# Altium footprint library CBPcbLib.PcbLib: 32 footprints (part 2 of 2)
Each footprint in its own frame and in the unit in brackets; x right, y up, seen from the top. Pads: shape width x height; smd on the part's side, far side on the other; paste and mask are expansions set on the pad; w line width, h text height; cw(c..) or ccw(c..) is an arc to the next point about the centre after c.
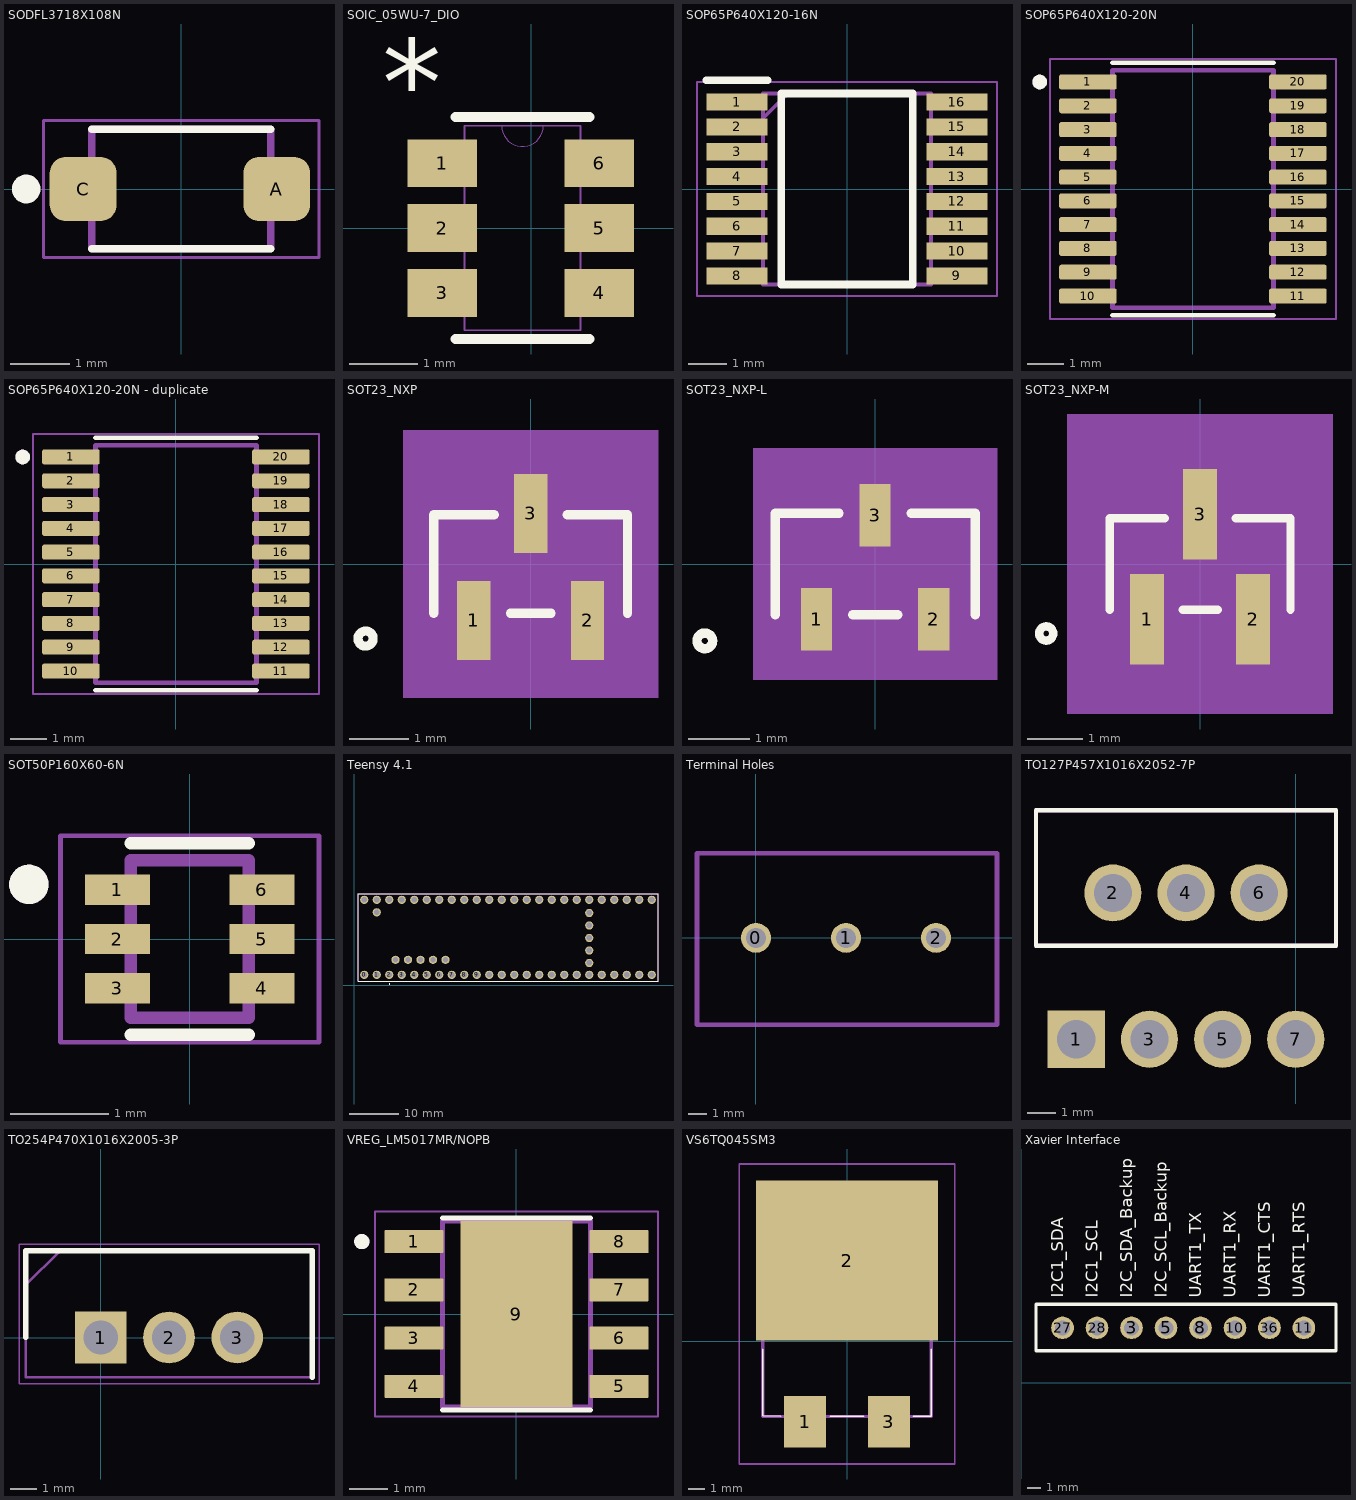
[diagram p1: the footprints below, top view; thin cyan lines are the x and y axes]

## SODFL3718X108N [mm]
pads (2):
  rrect50% 1.12x1.08 smd: A(1.6,0) C(-1.645,0)
Top Overlay:
  circle w0.24: c-2.6,0 r0.12
  lines w0.127: -1.5,-1 1.5,-1 ; -1.5,1 1.5,1
Mechanical 13:
  lines w0.127: -1.5,-1 1.5,-1 1.5,1 -1.5,1 -1.5,-1
Mechanical 15:
  lines w0.05: -2.31,-1.15 2.31,-1.15 2.31,1.15 -2.31,1.15 -2.31,-1.15

## SOIC_05WU-7_DIO [mm]
pads (6):
  rect 1.016x0.7 smd paste+0 mask+0: 1(-1.302,0.95) 2(-1.302,0) 3(-1.302,-0.95) 4(0.997,-0.95) 5(0.997,0) 6(0.997,0.95)
Top Overlay:
  lines w0.152: -1.105,-1.626 0.851,-1.626 ; -1.105,1.626 0.851,1.626
  text "*" at -2.184,1.499 h1.27
Mechanical 13:
  lines w0: -0.432,1.499 ccw(c-0.127,1.499) 0.178,1.499
  lines w0.025: -0.978,-1.179 -0.978,-0.721 ; -0.978,-0.229 -0.978,0.229 ; -0.978,0.721 -0.978,1.179 ; -0.851,-1.179 -1.397,-1.179 -1.397,-0.721 -0.851,-0.721 ; -0.851,-0.229 -1.397,-0.229 -1.397,0.229 -0.851,0.229 ; -0.851,0.721 -1.397,0.721 -1.397,1.179 -0.851,1.179 ; 0.724,-1.179 0.724,-0.721 ; 0.724,-0.229 0.724,0.229 ; 0.724,0.721 0.724,1.179 ; 0.851,-1.179 1.397,-1.179 1.397,-0.721 0.851,-0.721 ; 0.851,-0.229 1.397,-0.229 1.397,0.229 0.851,0.229 ; 0.851,0.721 1.397,0.721 1.397,1.179 0.851,1.179 ; -0.978,-1.499 -0.978,1.499 0.724,1.499 0.724,-1.499 -0.978,-1.499
3D body "SOIC_05WU-7_DIO.step": height 0.99, standoff 0, extent -1.524,-1.524 1.27,1.474

## SOP65P640X120-16N [mm]
pads (16):
  rect 1.6x0.45 smd: 1(-2.875,2.275) 2(-2.875,1.625) 3(-2.875,0.975) 4(-2.875,0.325) 5(-2.875,-0.325) 6(-2.875,-0.975) 7(-2.875,-1.625) 8(-2.875,-2.275) 9(2.875,-2.275) 10(2.875,-1.625) 11(2.875,-0.975) 12(2.875,-0.325) 13(2.875,0.325) 14(2.875,0.975) 15(2.875,1.625) 16(2.875,2.275)
Top Overlay:
  lines w0.2: -3.675,2.85 -2.075,2.85 ; -1.725,-2.5 1.725,-2.5 1.725,2.5 -1.725,2.5 -1.725,-2.5
Mechanical 15:
  lines w0.1: -2.2,1.85 -1.55,2.5 ; -2.2,-2.5 2.2,-2.5 2.2,2.5 -2.2,2.5 -2.2,-2.5
Mechanical 20:
  lines w0.05: -3.925,-2.8 3.925,-2.8 3.925,2.8 -3.925,2.8 -3.925,-2.8
3D body "DRV8847SPWR.stp": height 5.8, standoff -4.65, extent -10,-3.376 10,3.376

## SOP65P640X120-20N [mm]
pads (20):
  rrect25% 1.57x0.41 smd: 1(-2.87,2.925) 2(-2.87,2.275) 3(-2.87,1.625) 4(-2.87,0.975) 5(-2.87,0.325) 6(-2.87,-0.325) 7(-2.87,-0.975) 8(-2.87,-1.625) 9(-2.87,-2.275) 10(-2.87,-2.925) 11(2.87,-2.925) 12(2.87,-2.275) 13(2.87,-1.625) 14(2.87,-0.975) 15(2.87,-0.325) 16(2.87,0.325) 17(2.87,0.975) 18(2.87,1.625) 19(2.87,2.275) 20(2.87,2.925)
Top Overlay:
  circle w0.2: c-4.19,2.925 r0.1
  lines w0.127: -2.2,-3.45 2.2,-3.45 ; -2.2,3.45 2.2,3.45
Mechanical 13:
  circle w0.2: c-4.19,2.925 r0.1
  lines w0.127: -2.2,-3.25 -2.2,3.25 2.2,3.25 2.2,-3.25 -2.2,-3.25
Mechanical 15:
  lines w0.05: -3.91,-3.55 -3.91,3.55 3.91,3.55 3.91,-3.55 -3.91,-3.55
3D body "step_temp.STEP": height 1.2, standoff 0, extent -3.2,-3.25 3.2,3.25

## SOP65P640X120-20N - duplicate [mm]
height 1.2
pads (20):
  rrect25% 1.57x0.41 smd: 1(-2.87,2.925) 2(-2.87,2.275) 3(-2.87,1.625) 4(-2.87,0.975) 5(-2.87,0.325) 6(-2.87,-0.325) 7(-2.87,-0.975) 8(-2.87,-1.625) 9(-2.87,-2.275) 10(-2.87,-2.925) 11(2.87,-2.925) 12(2.87,-2.275) 13(2.87,-1.625) 14(2.87,-0.975) 15(2.87,-0.325) 16(2.87,0.325) 17(2.87,0.975) 18(2.87,1.625) 19(2.87,2.275) 20(2.87,2.925)
Top Overlay:
  circle w0.2: c-4.19,2.925 r0.1
  lines w0.127: -2.2,-3.45 2.2,-3.45 ; -2.2,3.45 2.2,3.45
Mechanical 13:
  circle w0.2: c-4.19,2.925 r0.1
  lines w0.127: -2.2,-3.25 -2.2,3.25 2.2,3.25 2.2,-3.25 -2.2,-3.25
Mechanical 15:
  lines w0.05: -3.91,-3.55 -3.91,3.55 3.91,3.55 3.91,-3.55 -3.91,-3.55
3D body "step_temp.STEP": height 1.2, standoff 0, extent -3.2,-3.25 3.2,3.25

## SOT23_NXP [mil]
pads (3):
  rect 22x52 smd paste+3.86 mask+4: 1(-37.5,-37.21) 2(37.5,-37.21) 3(0,33.36)
Top Overlay:
  circle w6: c-109,-49.21 r5
  lines w6: -64,-32.5 -64,32.5 -24.1,32.5 ; -13.4,-32.5 13.4,-32.5 ; 24.1,32.5 64,32.5 64,-32.5
Mechanical 5:
  region: -84,88.21 84,88.21 84,-88.21 -84,-88.21
Mechanical 13:
  circle w0: c-49,-17.5 r5
  lines w1: -59,-27.5 -59,27.5 59,27.5 59,-27.5 -59,-27.5 ; -47.5,-49.21 -27.5,-49.21 -27.5,-27.5 -47.5,-27.5 -47.5,-49.21 ; -10,27.5 -10,49.21 10,49.21 10,27.5 -10,27.5 ; 27.5,-49.21 47.5,-49.21 47.5,-27.5 27.5,-27.5 27.5,-49.21
Mechanical 15:
  region: 59,-27.5 -59,-27.5 -59,27.5 59,27.5
  region: -69,-37.5 -69,37.5 -21,37.5 -21,73.21 21,73.21 21,37.5 69,37.5 69,-37.5 58.5,-37.5 58.5,-73.21 -58.5,-73.21 -58.5,-37.5
  lines w6: -69,-37.5 -58.5,-37.5 -58.5,-73.21 58.5,-73.21 58.5,-37.5 69,-37.5 69,37.5 21,37.5 21,73.21 -21,73.21 -21,37.5 -69,37.5 -69,-37.5
3D body "SOT23_NXP.step": height 43.11, standoff 0, extent -59.02,-49.21 59.02,49.21

## SOT23_NXP-L [mil]
pads (3):
  rect 20x40 smd paste+3.86 mask+4: 1(-37.5,-35.21) 2(37.5,-35.21) 3(0,31.36)
Top Overlay:
  circle w6: c-109,-49.21 r5
  lines w6: -64,-32.5 -64,32.5 -23.1,32.5 ; -14.4,-32.5 14.4,-32.5 ; 23.1,32.5 64,32.5 64,-32.5
Mechanical 5:
  region: -78,74.21 78,74.21 78,-74.21 -78,-74.21
Mechanical 13:
  circle w0: c-49,-17.5 r5
  lines w1: -59,-27.5 59,-27.5 59,27.5 -59,27.5 -59,-27.5 ; -47.5,-49.21 -47.5,-27.5 -27.5,-27.5 -27.5,-49.21 -47.5,-49.21 ; -10,27.5 10,27.5 10,49.21 -10,49.21 -10,27.5 ; 27.5,-49.21 27.5,-27.5 47.5,-27.5 47.5,-49.21 27.5,-49.21
Mechanical 15:
  region: -63,-31.5 -63,31.5 -14,31.5 -14,59.21 14,59.21 14,31.5 63,31.5 63,-31.5 51.5,-31.5 51.5,-59.21 -51.5,-59.21 -51.5,-31.5
  region: 59,-27.5 -59,-27.5 -59,27.5 59,27.5
  lines w6: -63,-31.5 -63,31.5 -14,31.5 -14,59.21 14,59.21 14,31.5 63,31.5 63,-31.5 51.5,-31.5 51.5,-59.21 -51.5,-59.21 -51.5,-31.5 -63,-31.5
3D body "SOT23_NXP.step": height 43.11, standoff 0, extent -59.02,-49.21 59.02,49.21

## SOT23_NXP-M [mil]
pads (3):
  rect 24x64 smd paste+3.86 mask+4: 1(-37.5,-39.21) 2(37.5,-39.21) 3(0,35.36)
Top Overlay:
  circle w6: c-109,-49.21 r5
  lines w6: -64,-32.5 -64,32.5 -25.1,32.5 ; -12.4,-32.5 12.4,-32.5 ; 25.1,32.5 64,32.5 64,-32.5
Mechanical 5:
  region: -94,106.21 94,106.21 94,-106.21 -94,-106.21
Mechanical 13:
  circle w0: c-49,-17.5 r5
  lines w1: -59,-27.5 -59,27.5 59,27.5 59,-27.5 -59,-27.5 ; -47.5,-49.21 -27.5,-49.21 -27.5,-27.5 -47.5,-27.5 -47.5,-49.21 ; -10,27.5 -10,49.21 10,49.21 10,27.5 -10,27.5 ; 27.5,-49.21 47.5,-49.21 47.5,-27.5 27.5,-27.5 27.5,-49.21
Mechanical 15:
  region: 59,-27.5 -59,-27.5 -59,27.5 59,27.5
  region: -79,-47.5 -79,47.5 -32,47.5 -32,91.21 32,91.21 32,47.5 79,47.5 79,-47.5 69.5,-47.5 69.5,-91.21 -69.5,-91.21 -69.5,-47.5
  lines w6: -79,-47.5 -69.5,-47.5 -69.5,-91.21 69.5,-91.21 69.5,-47.5 79,-47.5 79,47.5 32,47.5 32,91.21 -32,91.21 -32,47.5 -79,47.5 -79,-47.5
3D body "SOT23_NXP.step": height 43.11, standoff 0, extent -59.02,-49.21 59.02,49.21

## SOT50P160X60-6N [mm]
pads (6):
  rect 0.66x0.31 smd: 1(-0.735,0.5) 2(-0.735,0) 3(-0.735,-0.5) 4(0.735,-0.5) 5(0.735,0) 6(0.735,0.5)
Top Overlay:
  circle w0.2: c-1.635,0.555 r0.1
  lines w0.127: -0.6,-0.975 0.6,-0.975 ; -0.6,0.975 0.6,0.975
Mechanical 13:
  circle w0.2: c-1.635,0.555 r0.1
  lines w0.127: -0.6,-0.8 0.6,-0.8 0.6,0.8 -0.6,0.8 -0.6,-0.8
Mechanical 15:
  lines w0.05: -1.315,-1.05 -1.315,1.05 1.315,1.05 1.315,-1.05 -1.315,-1.05
3D body "step_temp.STEP": height 0.6, standoff 0, extent -0.8,-0.8 0.8,0.8

## Teensy 4.1 [mm] "Designators are set to match the actual number order of the pins, not their digital values."
pads (59):
  round 1.665 hole 1.11: 0(2.032,2.159) 1(4.572,2.159) 2(7.112,2.159) 3(9.652,2.159) 4(12.192,2.159) 5(14.732,2.159) 6(17.272,2.159) 7(19.812,2.159) 8(22.352,2.159) 9(24.892,2.159) 10(27.432,2.159) 11(29.972,2.159) 12(32.512,2.159) 13(35.052,2.159) 14(37.592,2.159) 15(40.132,2.159) 16(42.672,2.159) 17(45.212,2.159) 18(47.752,2.159) 19(50.292,2.159) 20(52.832,2.159) 21(55.372,2.159) 22(57.912,2.159) 23(60.452,2.159) 24(2.032,17.399) 25(4.572,17.399) 26(7.112,17.399) 27(9.652,17.399) 28(12.192,17.399) 29(14.732,17.399) 30(17.272,17.399) 31(19.812,17.399) 32(22.352,17.399) 33(24.892,17.399) 34(27.432,17.399) 35(29.972,17.399) 36(32.512,17.399) 37(35.052,17.399) 38(37.592,17.399) 39(40.132,17.399) 40(42.672,17.399) 41(45.212,17.399) 42(47.752,17.399) 43(50.292,17.399) 44(52.832,17.399) 45(55.372,17.399) 46(57.912,17.399) 47(60.452,17.399) ""(4.572,14.859) ""(8.382,5.209) ""(10.922,5.209) ""(13.462,5.209) ""(16.002,5.209) ""(18.542,5.209) ""(47.752,4.572) ""(47.752,7.112) ""(47.752,9.652) ""(47.752,12.192) ""(47.752,14.732)
Top Overlay:
  lines w0.2: 7.112,0.259 ccw(c7.162,0.259) 7.212,0.259 ; 7.112,0.259 cw(c7.162,0.259) 7.212,0.259 ; 7.112,0.259 ccw(c7.162,0.259) 7.212,0.259 ; 0.762,0.889 0.762,18.669 61.722,18.669 61.722,0.889 0.762,0.889
Mechanical 15:
  lines w0.1: 0.762,0.889 0.762,18.669 61.722,18.669 61.722,0.889 0.762,0.889
3D body "Teensy 4.1 (Without Headers).step": height 5.04, standoff 0.42, extent -0.234,0.991 61.976,18.771

## Terminal Holes [mm]
pads (3):
  round 1.665 hole 1.11: 0(0,0) 1(5,0) 2(10,0)
Mechanical 1:
  lines w0.254: -3.277,-4.826 13.386,-4.826 13.386,4.699 -3.277,4.699 -3.277,-4.826
3D body "Screw Terminal Block 5mm 3-way.step": height 10, standoff -2, extent -2.704,-3.962 12.446,4.038

## TO127P457X1016X2052-7P [mil]
pads (7):
  rect 78x78 hole 52: 1(-300,-441)
  round 78 hole 52: 2(-250,-241) 3(-200,-441) 4(-150,-241) 5(-100,-441) 6(-50,-241) 7(0,-441)
Top Overlay:
  lines w6: -355,-313 -355,-128 55,-128 55,-313 -355,-313
Mechanical 13:
  lines w6: -355,-313 -355,-128 55,-128 55,-313 -355,-313

## TO254P470X1016X2005-3P [mm]
pads (3):
  rect 1.92x1.92 / inner round 1.92 / far side rect 1.92x1.92 hole 1.28: 1(0,0)
  round 1.92 hole 1.28: 2(2.54,0) 3(5.08,0)
Top Overlay:
  lines w0.2: -2.795,0 -2.795,3.225 7.875,3.225 7.875,-1.475
Mechanical 15:
  lines w0.1: -2.795,1.955 -1.525,3.225 ; -2.795,-1.475 7.875,-1.475 7.875,3.225 -2.795,3.225 -2.795,-1.475
Mechanical 20:
  lines w0.05: -3.045,-1.725 8.125,-1.725 8.125,3.475 -3.045,3.475 -3.045,-1.725
3D body "CSD18502KCS.stp": height 5.8, standoff -4.65, extent -10,-3.376 10,3.376

## VREG_LM5017MR/NOPB [mm]
pads (9):
  rrect5% 1.55x0.6 smd mask+0: 1(-2.7,1.905) 2(-2.7,0.635) 3(-2.7,-0.635) 4(-2.7,-1.905) 5(2.7,-1.905) 6(2.7,-0.635) 7(2.7,0.635) 8(2.7,1.905)
  rect 2.95x4.9 smd paste-3 mask+0: 9(0,0)
Top Overlay:
  circle w0.2: c-4.07,1.905 r0.1
  lines w0.127: -1.95,-2.525 1.95,-2.525 ; -1.95,2.525 1.95,2.525
Top Paste:
  region: 1.355,-1.7 -1.355,-1.7 -1.355,1.7 1.355,1.7
Top Solder:
  drawing of 9 lines, arcs and shapes, not listed
Mechanical 13:
  circle w0.2: c-4.07,1.905 r0.1
  lines w0.127: -1.95,-2.45 1.95,-2.45 1.95,2.45 -1.95,2.45 -1.95,-2.45
Mechanical 15:
  lines w0.05: -3.725,-2.7 3.725,-2.7 3.725,2.7 -3.725,2.7 -3.725,-2.7
3D body "step_temp.STEP": height 1.7, standoff 0, extent -3,-2.45 3,2.45

## VS6TQ045SM3 [mm]
pads (3):
  rect 2.525x3.1 smd: 1(-2.525,-4.86) 3(2.525,-4.86)
  rect 11x9.65 smd: 2(0,4.86)
Top Overlay:
  lines w0.1: -5.08,-0.5 -5.08,-4.5 -4,-4.54 ; -1,-4.54 1,-4.54 ; 4,-4.54 5.08,-4.54 ; 5.08,-4.5 5.08,-0.5
Mechanical 15:
  lines w0.2: -5.08,-4.54 -5.08,4.54 5.08,4.54 5.08,-4.54 -5.08,-4.54
Mechanical 20:
  lines w0.1: -6.5,-7.41 -6.5,10.685 6.5,10.685 6.5,-7.41 -6.5,-7.41
3D body "D2PACK.stp": height 4.45, standoff 0, extent -5.2,-5.943 5.2,9.257

## Xavier Interface [mm]
pads (8):
  round 1.665 hole 1.11: 3(8.128,4.039) 5(10.668,4.039) 8(13.208,4.039) 10(15.748,4.039) 11(20.828,4.039) 27(3.048,4.039) 28(5.588,4.039) 36(18.288,4.039)
Top Overlay:
  lines w0.254: 1.092,2.337 23.19,2.337 23.19,5.766 1.092,5.766 1.092,2.337
  text "UART1_RTS" at 21.189,6.248 h1.52
  text "UART1_CTS" at 18.649,6.248 h1.52
  text "UART1_RX" at 16.109,6.248 h1.52
  text "UART1_TX" at 13.569,6.248 h1.52
  text "I2C_SCL_Backup" at 11.029,6.248 h1.52
  text "I2C_SDA_Backup" at 8.489,6.248 h1.52
  text "I2C1_SCL" at 5.949,6.248 h1.52
  text "I2C1_SDA" at 3.409,6.248 h1.52